# Altium footprint library Maim_Integrated_Switching_Regulators.PcbLib: 4 footprints
Each footprint in its own frame and in the unit in brackets; x right, y up, seen from the top. Pads: shape width x height; smd on the part's side, far side on the other; paste and mask are expansions set on the pad; w line width, h text height; cw(c..) or ccw(c..) is an arc to the next point about the centre after c.
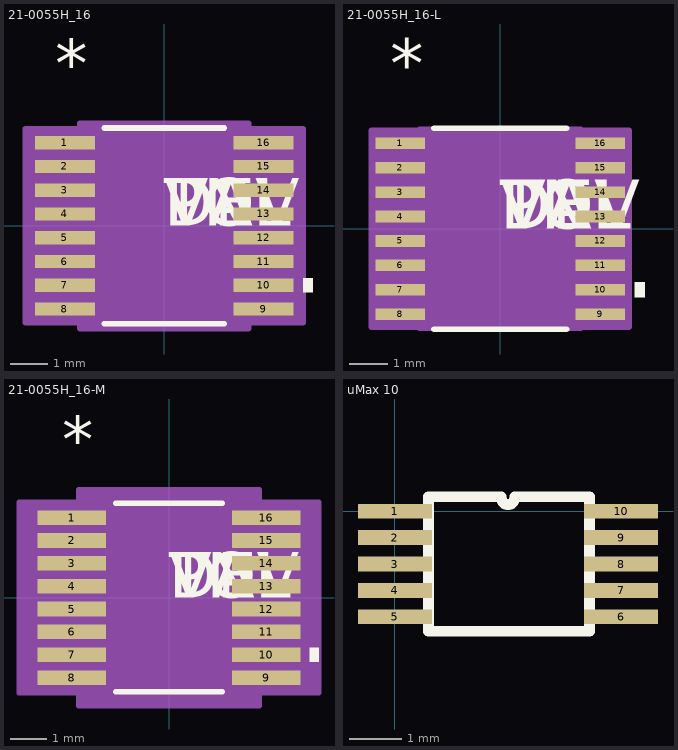
[diagram p0: the footprints below, top view; thin cyan lines are the x and y axes]

## 21-0055H_16 [mil] "Package Outline, QSOP, 0.150\", 0.025\" Lead Pitch"
pads (16):
  rect 63x14 smd: 1(-104.5,87.5) 2(-104.5,62.5) 3(-104.5,37.5) 4(-104.5,12.5) 5(-104.5,-12.5) 6(-104.5,-37.5) 7(-104.5,-62.5) 8(-104.5,-87.5) 9(104.5,-87.5) 10(104.5,-62.5) 11(104.5,-37.5) 12(104.5,-12.5) 13(104.5,12.5) 14(104.5,37.5) 15(104.5,62.5) 16(104.5,87.5)
Top Overlay:
  region: 146,-55 156,-55 156,-70 146,-70
  lines w6: -63.03,-103 63.03,-103 ; -63.03,103 63.03,103
  text "*" at -114.5,146.5 h50
  text "PN" at 0,0 h50
  text "DEV" at 0,0 h50
  text "VAL" at 0,0 h50
  text "TOL" at 0,0 h50
Mechanical 13:
  lines w0: -12,98 ccw(c0,98) 12,98
  text "*" at -63.5,95 h50
  text "RefDes2" at 0,0 h50
Mechanical 15:
  region: -88.5,-102 -146,-102 -146,102 -88.5,102 -88.5,108 88.5,108 88.5,102 146,102 146,-102 88.5,-102 88.5,-108 -88.5,-108
  lines w6: -146,-102 -146,102 -88.5,102 -88.5,108 88.5,108 88.5,102 146,102 146,-102 88.5,-102 88.5,-108 -88.5,-108 -88.5,-102 -146,-102
3D body "21-0055H_16.stp": height 69.01, standoff 0, extent -121.99,-98 122.01,98

## 21-0055H_16-L [mil] "Package Outline, QSOP, 0.150\", 0.025\" Lead Pitch"
pads (16):
  rect 51x12 smd: 1(-102.5,87.5) 2(-102.5,62.5) 3(-102.5,37.5) 4(-102.5,12.5) 5(-102.5,-12.5) 6(-102.5,-37.5) 7(-102.5,-62.5) 8(-102.5,-87.5) 9(102.5,-87.5) 10(102.5,-62.5) 11(102.5,-37.5) 12(102.5,-12.5) 13(102.5,12.5) 14(102.5,37.5) 15(102.5,62.5) 16(102.5,87.5)
Top Overlay:
  region: 138,-55 148,-55 148,-70 138,-70
  lines w6: -67.98,-103 67.98,-103 ; -67.98,103 67.98,103
  text "*" at -112.5,144.5 h50
  text "PN" at 0,0 h50
  text "DEV" at 0,0 h50
  text "VAL" at 0,0 h50
  text "TOL" at 0,0 h50
Mechanical 13:
  lines w0: -12,98 ccw(c0,98) 12,98
  text "*" at -63.5,95 h50
  text "RefDes2" at 0,0 h50
Mechanical 15:
  region: -82.5,-100.8 -132,-100.8 -132,100.8 -82.5,100.8 -82.5,102 82.5,102 82.5,100.8 132,100.8 132,-100.8 82.5,-100.8 82.5,-102 -82.5,-102
  lines w6: -132,-100.8 -132,100.8 -82.5,100.8 -82.5,102 82.5,102 82.5,100.8 132,100.8 132,-100.8 82.5,-100.8 82.5,-102 -82.5,-102 -82.5,-100.8 -132,-100.8
3D body "21-0055H_16-L.stp": height 69.01, standoff 0, extent -121.99,-97.99 122.01,98.01

## 21-0055H_16-M [mil] "Package Outline, QSOP, 0.150\", 0.025\" Lead Pitch"
pads (16):
  rect 75x16 smd: 1(-106.5,87.5) 2(-106.5,62.5) 3(-106.5,37.5) 4(-106.5,12.5) 5(-106.5,-12.5) 6(-106.5,-37.5) 7(-106.5,-62.5) 8(-106.5,-87.5) 9(106.5,-87.5) 10(106.5,-62.5) 11(106.5,-37.5) 12(106.5,-12.5) 13(106.5,12.5) 14(106.5,37.5) 15(106.5,62.5) 16(106.5,87.5)
Top Overlay:
  region: 154,-55 164,-55 164,-70 154,-70
  lines w6: -58.26,-103 58.26,-103 ; -58.26,103 58.26,103
  text "TOL" at 0,0 h50
  text "VAL" at 0,0 h50
  text "DEV" at 0,0 h50
  text "PN" at 0,0 h50
  text "*" at -116.5,148.5 h50
Mechanical 13:
  lines w0: -12,98 ccw(c0,98) 12,98
  text "RefDes2" at 0,0 h50
  text "*" at -63.5,95 h50
Mechanical 15:
  region: -98.5,-104 -164,-104 -164,104 -98.5,104 -98.5,118 98.5,118 98.5,104 164,104 164,-104 98.5,-104 98.5,-118 -98.5,-118
  lines w6: -164,-104 -98.5,-104 -98.5,-118 98.5,-118 98.5,-104 164,-104 164,104 98.5,104 98.5,118 -98.5,118 -98.5,104 -164,104 -164,-104
3D body "21-0055H_16-M.stp": height 69.01, standoff 0, extent -122,-98 122,98

## uMax 10 [mm] "3X3mm uMax 10 lead."
pads (10):
  rect 1.4x0.28 smd: 1(0,0) 2(0,-0.5) 3(0,-1) 4(0,-1.5) 5(0,-2) 6(4.28,-2) 7(4.28,-1.5) 8(4.28,-1) 9(4.28,-0.5) 10(4.28,0)
Top Overlay:
  lines w0.2: 2.015,0.25 ccw(c2.14,0.25) 2.265,0.25 ; 2.015,0.27 0.635,0.27 0.635,-2.27 3.683,-2.27 3.683,0.27 2.265,0.27
3D body: height 1.09, standoff 0.15, extent 0.635,-2.286 3.683,0.254